# EAGLE library part STTS751 (library Parts)
高精度１２ビットＩ２Ｃ接続デジタル温度センサ ・最大１２ビットの高分解能 ・温度測定精度 ±２℃ ・電源電圧：２．２５Ｖ～３．６Ｖ ・消費電流：５０μＡ ・インタフェース：Ｉ２Ｃ（２－Ｗｉｒｅ，ＳＭＢｕｓ） ・測定温度範囲：－４０℃～＋１２５℃ ・パッケージ：ＳＯＴ－２３－６
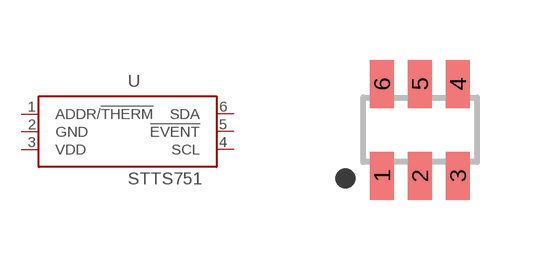
[diagram p9: symbol with the pads of SOT23-6L; footprint SOT23-6L]

Designator prefix U

## STTS751-0WB3F  [SOT23-6L]
1  ADDR/!THERM!
2  GND  pas
3  VDD  pas
4  SCL
5  !EVENT!
6  SDA

## Footprint SOT23-6L (pad centres in mm)
Small Outline Transistor SOT23-6L
smd 0.6 x 1.2: 1 -0.95,-1.15; 2 0,-1.15; 3 0.95,-1.15; 4 0.95,1.15; 5 0,1.15; 6 -0.95,1.15